# EAGLE library part KCSA02-109 (library kcsx02)
KCSA02-109 LED 7 Segment
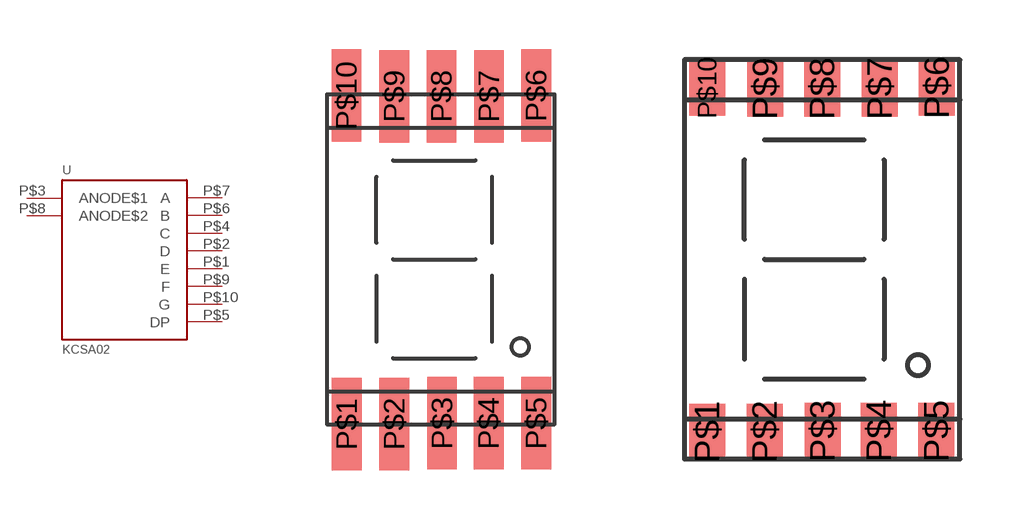
[diagram p0: symbol with the pads of KCSX02; footprints KCSX02, KCSX02-SM]

Designator prefix -

## KCSA02-109-DEFAULT  [KCSX02]
P$1  E
P$2  D
P$3  ANODE$1
P$4  C
P$5  DP
P$6  B
P$7  A
P$8  ANODE$2
P$9  F
P$10  G

## KCSA02-109-SMALL  [KCSX02-SM]
Pads as for KCSX02

## Footprint KCSX02 (pad centres in mm)
KCSA02 and KCSC02 package
smd 0.9 x 2.8: P$1 0.6,0.01; P$2 2.04,0.01; P$3 3.49,0.03; P$4 4.9,0.03; P$5 6.34,0.03; P$6 6.34,9.97; P$7 4.91,9.95; P$8 3.47,9.95; P$9 2.04,9.95; P$10 0.59,9.97

## Footprint KCSX02-SM (pad centres in mm)
smd 0.9 x 1.4: P$1 0.57,0.68; P$2 2.01,0.68; P$3 3.46,0.7; P$4 4.87,0.7; P$5 6.31,0.7; P$6 6.32,9.3; P$7 4.89,9.28; P$8 3.45,9.28; P$9 2.02,9.28; P$10 0.57,9.3